# Altium schematic symbol library LT6118.SchLib: 1 symbol
Pins are listed as number, name and electrical type; pins without a type are passive.

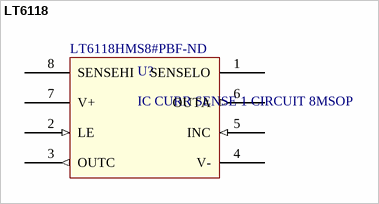
[diagram p0: symbol LT6118]

## LT6118
designator U?, comment IC CURR SENSE 1 CIRCUIT 8MSOP  Supplier Part Number 1: LT6118HMS8#PBF-ND
Current Sense Amplifier, reference and comparator with Power-On Reset; ComponentLink1Description: Datasheet; ComponentLink1URL: https://www.analog.com/media/en/technical-documentation/data-sheets/6118f.pdf; Supplier 1: Digi-Key
footprint SOP65P300X125-8N (SOP + Pitch P + Lead Span Nominal X Height - #Pins)
pins: 1 SENSELO, 2 LE (in), 3 OUTC (out), 4 V-, 5 INC (in), 6 OUTA (out), 7 V+, 8 SENSEHI